# Altium footprint library FullyDigital.PcbLib: 55 footprints (part 4 of 4)
Each footprint in its own frame and in the unit in brackets; x right, y up, seen from the top. Pads: shape width x height; smd on the part's side, far side on the other; paste and mask are expansions set on the pad; w line width, h text height; cw(c..) or ccw(c..) is an arc to the next point about the centre after c.
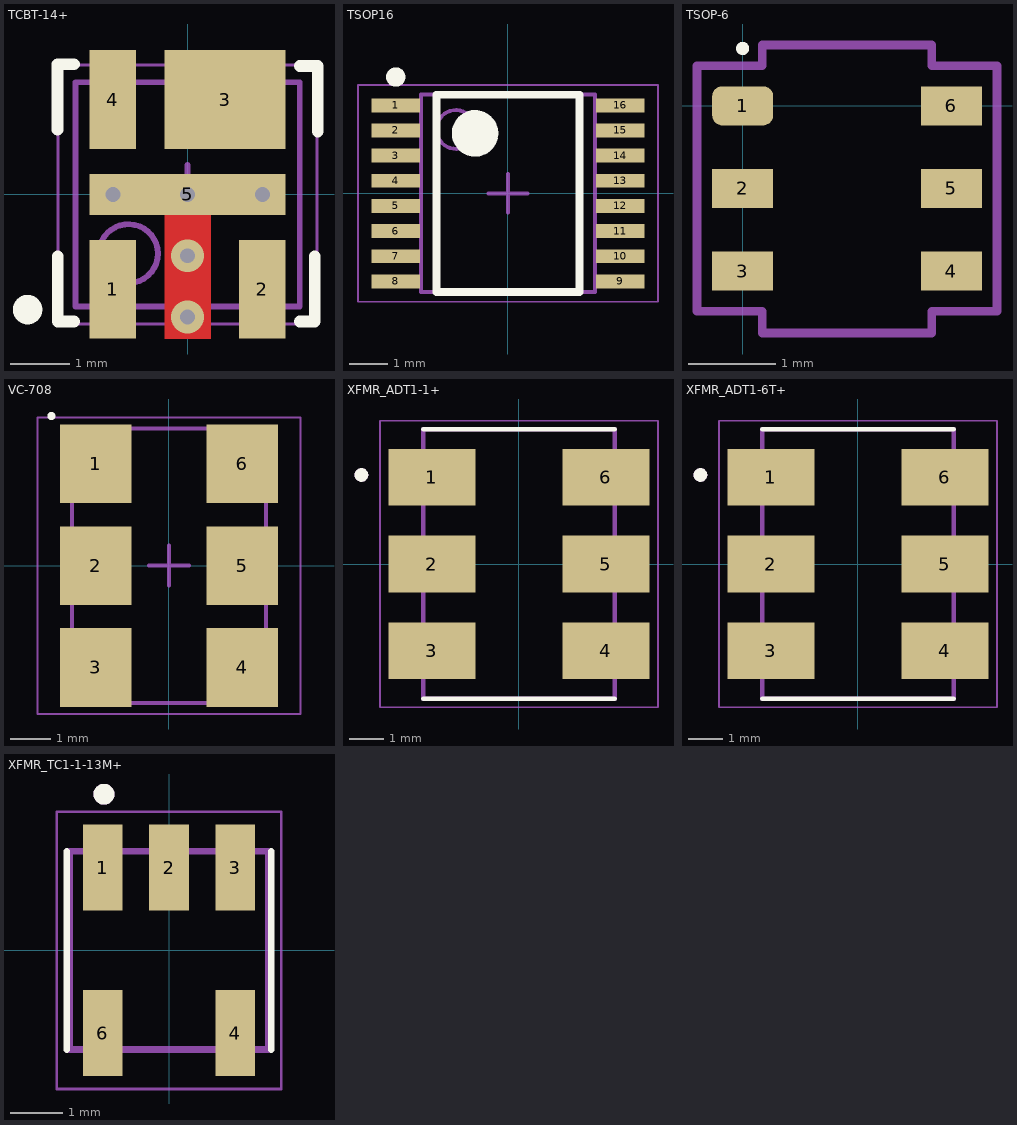
[diagram p3: the footprints below, top view; thin cyan lines are the x and y axes]

## TCBT-14+ [mm] "TCBT-14+, 5-Leads, Body 3.81x3.81mm"
height 3.56
pads (5):
  rect 0.79x1.68 smd mask+0.05: 1(-1.27,-1.61) 2(1.27,-1.61) 4(-1.27,1.61)
  rect 2.06x1.68 smd mask+0.05: 3(0.635,1.61)
  rect 3.33x0.69 smd mask+0.05: 5(0,0)
via 0,-1.041 diameter 0.559 hole 0.254
via 0,-2.083 diameter 0.559 hole 0.254
via -1.27,0 diameter 0.559 hole 0.254
via 1.27,0 diameter 0.559 hole 0.254
via 0,0 diameter 0.559 hole 0.254
Top Layer:
  rectangle: -0.395,-2.455 0.395,0.345
Top Overlay:
  circle w0.25: c-2.718,-1.956 r0.125
  lines w0.2: -2.21,1.1 -2.21,2.21 -1.93,2.21 ; -2.206,-1.049 -2.206,-2.159 -1.93,-2.159 ; 1.905,-2.159 2.159,-2.159 2.159,-1.049 ; 1.905,2.181 2.21,2.181 2.21,1.071
Mechanical 13:
  circle w0.1: c-1.005,-1.005 r0.5
  lines w0.1: -1.905,-1.905 -1.905,1.905 1.905,1.905 1.905,-1.905 -1.905,-1.905
Mechanical 15:
  lines w0.05: -2.2,-2.2 -2.2,2.2 2.2,2.2 2.2,-2.2 -2.2,-2.2
  lines w0.1: -0.5,0 0.5,0 ; 0,-0.5 0,0.5
3D body: height 3.56, standoff 0.05, extent -1.905,-1.905 1.905,1.905

## TSOP16 [mm] "TSOP, 16-Leads, Body 5.00x4.40mm, Pitch 0.65mm, IPC Medium Density"
height 1.2
pads (16):
  rect 1.26x0.36 smd mask+0.05: 1(-2.9,2.275) 2(-2.9,1.625) 3(-2.9,0.975) 4(-2.9,0.325) 5(-2.9,-0.325) 6(-2.9,-0.975) 7(-2.9,-1.625) 8(-2.9,-2.275) 9(2.9,-2.275) 10(2.9,-1.625) 11(2.9,-0.975) 12(2.9,-0.325) 13(2.9,0.325) 14(2.9,0.975) 15(2.9,1.625) 16(2.9,2.275)
Top Overlay:
  circle w0.6: c-0.85,1.55 r0.3
  circle w0.25: c-2.9,3.005 r0.125
  lines w0.2: -1.85,-2.55 -1.85,2.55 1.85,2.55 1.85,-2.55 -1.85,-2.55
Mechanical 13:
  circle w0.1: c-1.35,1.65 r0.5
  lines w0.1: -2.25,-2.55 -2.25,2.55 2.25,2.55 2.25,-2.55 -2.25,-2.55
Mechanical 15:
  lines w0.05: -3.875,-2.8 -3.875,2.8 3.875,2.8 3.875,-2.8 -3.875,-2.8
  lines w0.1: -0.5,0 0.5,0 ; 0,-0.5 0,0.5
3D body "TSOP16.step": height 1.2, standoff 0, extent -3.15,-2.509 3.25,2.591

## TSOP-6 [mm]
pads (6):
  rrect50% 0.7x0.45 smd mask+0.05: 1(0,0)
  rect 0.7x0.45 smd mask+0.05: 2(0,-0.95) 3(0,-1.9) 4(2.4,-1.9) 5(2.4,-0.95) 6(2.4,0)
Top Overlay:
  circle w0.1: c0,0.66 r0.025
Mechanical 15:
  lines w0.1: -0.525,-2.362 -0.525,0.463 0.225,0.463 0.225,0.7 2.175,0.7 2.175,0.463 2.925,0.463 2.925,-2.362 2.175,-2.362 2.175,-2.613 0.225,-2.613 0.225,-2.362 -0.525,-2.362
3D body "SOT457.step": height 1.02, standoff 0.01, extent -0.134,-2.415 2.616,0.535

## VC-708 [mm] "6-Leads, Crystal Oscillator, 7mm x 5mm"
height 1.8
pads (6):
  rect 1.78x1.96 smd: 1(-1.83,2.54) 2(-1.83,0) 3(-1.83,-2.54) 4(1.83,-2.54) 5(1.83,0) 6(1.83,2.54)
Top Overlay:
  circle w0.1: c-2.932,3.732 r0.05
Mechanical 13:
  circle w0.1: c-1.525,2.525 r0.5
  lines w0.1: -2.425,-3.425 2.425,-3.425 2.425,3.425 -2.425,3.425 -2.425,-3.425
Mechanical 15:
  lines w0.05: -3.28,-3.7 3.28,-3.7 3.28,3.7 -3.28,3.7 -3.28,-3.7
  lines w0.1: -0.5,0 0.5,0 ; 0,-0.5 0,0.5
3D body: height 1.8, standoff 0.1, extent -2.425,-3.425 2.425,3.425

## XFMR_ADT1-1+ [mm] "RF Transformer 50ohm 1.0 0.15 to 400 MHz"
height 2.84
pads (6):
  rect 2.54x1.65 smd: 1(-2.54,2.54) 2(-2.54,0) 3(-2.54,-2.54) 4(2.54,-2.54) 5(2.54,0) 6(2.54,2.54)
Top Overlay:
  circle w0.2: c-4.6,2.6 r0.1
  lines w0.127: -2.795,-3.935 2.795,-3.935 ; -2.795,3.935 2.795,3.935
Mechanical 13:
  circle w0.2: c-4.6,2.6 r0.1
  lines w0.127: -2.795,-3.935 -2.795,3.935 2.795,3.935 2.795,-3.935 -2.795,-3.935
Mechanical 15:
  lines w0.05: -4.06,-4.185 -4.06,4.185 4.06,4.185 4.06,-4.185 -4.06,-4.185

## XFMR_ADT1-6T+ [mm] "RF Transformer 50? 1.0 0.03 to 125 MHz"
height 5.23
pads (6):
  rect 2.54x1.65 smd: 1(-2.54,2.54) 2(-2.54,0) 3(-2.54,-2.54) 4(2.54,-2.54) 5(2.54,0) 6(2.54,2.54)
Top Overlay:
  circle w0.2: c-4.6,2.6 r0.1
  lines w0.127: -2.795,-3.935 2.795,-3.935 ; -2.795,3.935 2.795,3.935
Mechanical 13:
  circle w0.2: c-4.6,2.6 r0.1
  lines w0.127: -2.795,-3.935 -2.795,3.935 2.795,3.935 2.795,-3.935 -2.795,-3.935
Mechanical 15:
  lines w0.05: -4.06,-4.185 -4.06,4.185 4.06,4.185 4.06,-4.185 -4.06,-4.185

## XFMR_TC1-1-13M+ [mm]
pads (5):
  rect 0.76x1.65 smd: 1(-1.27,1.59) 2(0,1.59) 3(1.27,1.59) 4(1.27,-1.59) 6(-1.27,-1.59)
Top Overlay:
  circle w0.2: c-1.25,3 r0.1
  lines w0.127: -1.963,-1.905 -1.963,1.905 ; 1.963,-1.905 1.963,1.905
Mechanical 13:
  circle w0.2: c-1.25,3 r0.1
  lines w0.127: -1.905,-1.905 -1.905,1.905 1.905,1.905 1.905,-1.905 -1.905,-1.905
Mechanical 15:
  lines w0.05: -2.155,-2.665 -2.155,2.665 2.155,2.665 2.155,-2.665 -2.155,-2.665